# EAGLE library part USB-A (library Revolve)
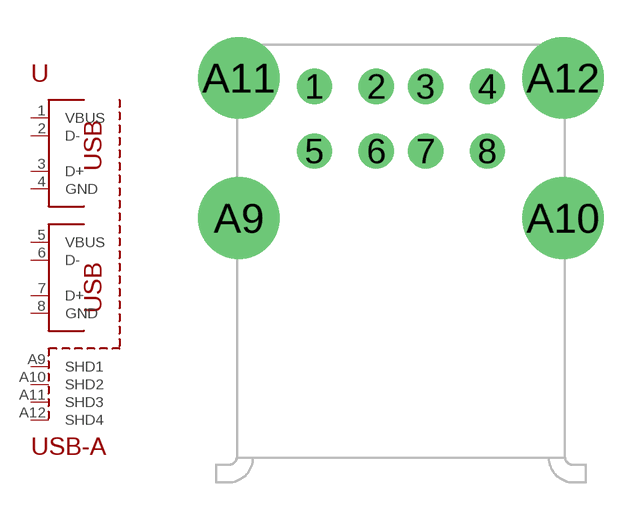
[diagram p2: symbol with the pads of USB-A; footprint USB-A]

Designator prefix -

## USB-A  [USB-A]
1  VBUS  pwr
2  D-
3  D+
4  GND  pwr
5  VBUS  pwr
6  D-
7  D+
8  GND  pwr
A9  SHD1  pas
A10  SHD2  pas
A11  SHD3  pas
A12  SHD4  pas

## Footprint USB-A (pad centres in mm)
drill 0.92: 1 -3.5,5.33; 2 -1,5.33; 3 1,5.33; 4 3.5,5.33; 5 -3.5,2.71; 6 -1,2.71; 7 1,2.71; 8 3.5,2.71
drill 2.3: A9 -6.57,0; A10 6.57,0; A11 -6.57,5.68; A12 6.57,5.68